# EAGLE library part ECH33_6E8 (library radiotubes)
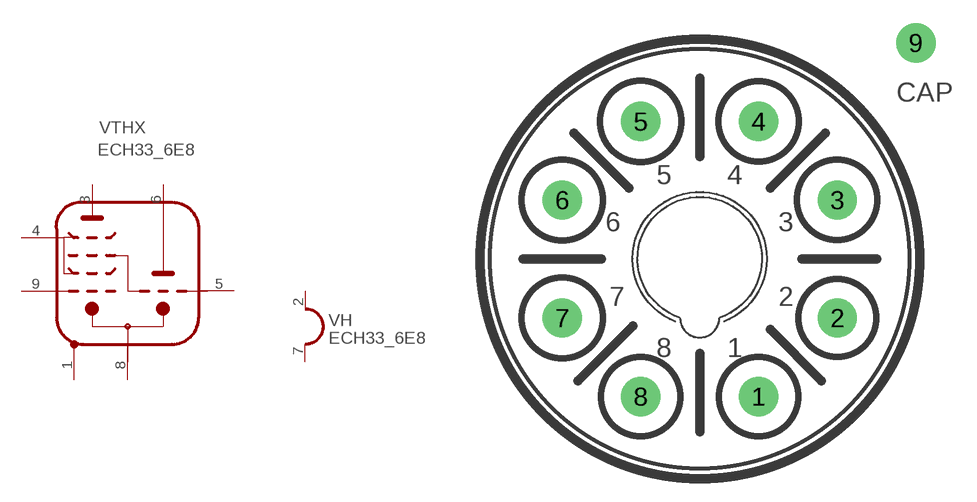
[diagram p89: symbol with the pads of OCTAL-C; footprint OCTAL-C]

Designator prefix V; gates THX=TRI-HEX H=HEATER_1

## ECH33_6E8  [OCTAL-C]
1  THX:M  pas
2  H:H1  pas
3  THX:HA  pas
4  THX:HSG  pas
5  THX:TG+G3  pas
6  THX:TA  pas
7  H:H2  pas
8  THX:K  pas
9  THX:HG1  pas

## Footprint OCTAL-C (pad centres in mm)
drill 1.27 pad 2.54: 1 3.81,-8.89; 2 8.89,-3.81; 3 8.89,3.81; 4 3.81,8.89; 5 -3.81,8.89; 6 -8.89,3.81; 7 -8.89,-3.81; 8 -3.81,-8.89; 9 13.97,13.97